# Altium integrated library Linear Technology Power Management Switching Regulator LTC1174-LTC3901.IntLib: 2647 symbols (part 69 of 364)
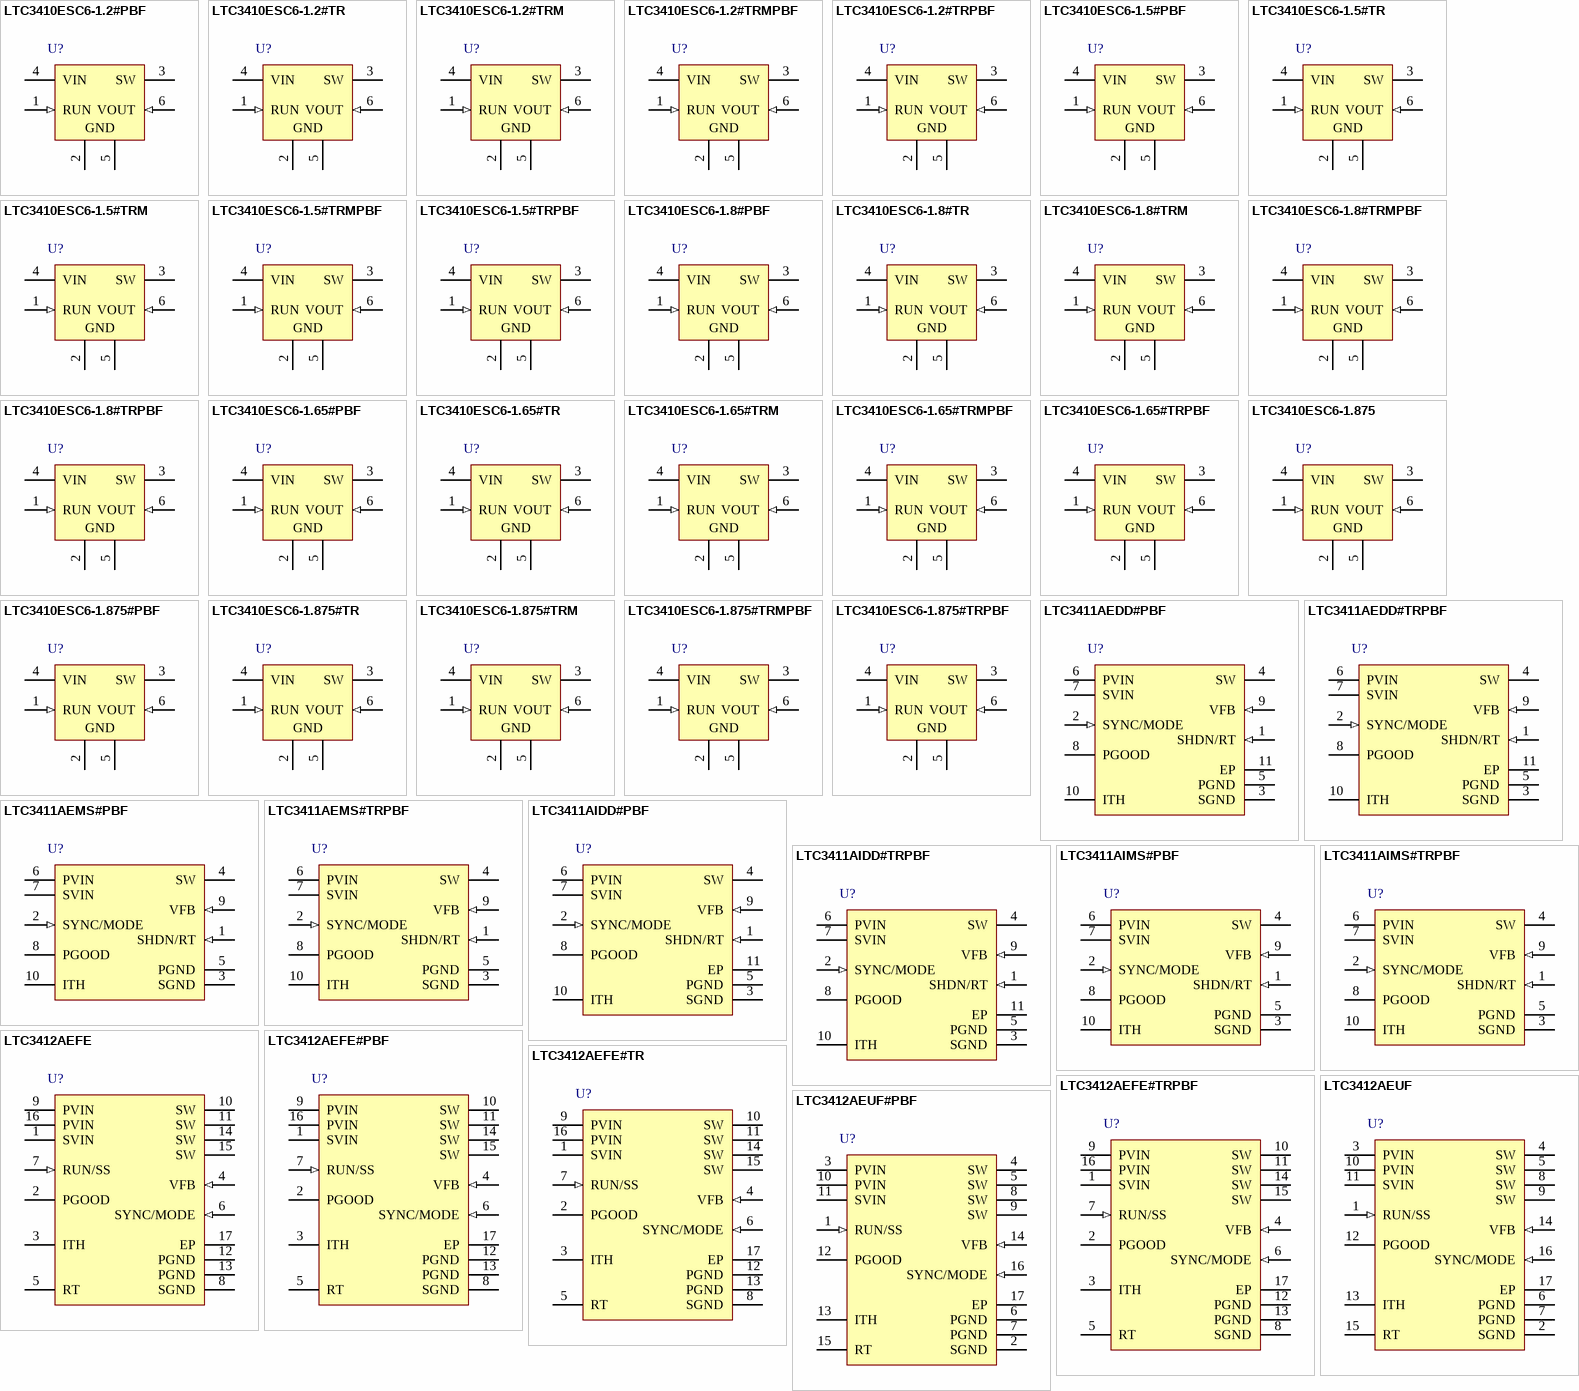
[diagram p250: symbols LTC3410ESC6-1.2#PBF to LTC3412AEUF#PBF]

## LTC3411AIMS#PBF
designator U?
1.25 A, 4 MHz, Synchronous Step-Down DC/DC Converter, 10-pin SOP (MS-10), -40 to 125 degC, Pb-Free; Manufacturer: Linear Technology; PartNumber: LTC3411AIMS#PBF; Frequency Sync Range: 400kHz - 4MHz; Number of Outputs: 1; DatasheetVersion: Rev. B; PackageVersion: Rev. E, 06/2010; PackageReference: MS-10; PackageDescription: 10-Pin Plastic MSOP, Body 3 x 3 mm, Pitch 0.5 mm; Supplier 1: Digi-Key; Supplier Part Number 1: LTC3411AIMS#PBF-ND; Supplier 2: Farnell; Supplier Part Number 2: 2295043; Supplier 3: Newark; Supplier Part Number 3: 15N3524; RoHS: TRUE; Mounting Technology: Surface Mount; ComponentLink1Description: Manufacturer URL; ComponentLink1URL: http://www.linear.com/; ComponentLink2Description: Datasheet; ComponentLink2URL: http://cds.linear.com/docs/en/datasheet/3411afb.pdf; ComponentLink3Description: Package Specification; ComponentLink3URL: http://cds.linear.com/docs/en/packaging/05081661_F_MS.pdf
footprint LT-MS-10_N (SOP, 10-Leads, Body 3.1x3.1mm, Pitch 0.5mm, IPC Medium Density)
footprint LT-MS-10_L (SOP, 10-Leads, Body 3.1x3.1mm, Pitch 0.5mm, IPC High Density)
footprint LT-MS-10_M (SOP, 10-Leads, Body 3.1x3.1mm, Pitch 0.5mm, IPC Low Density)
pins: 1 SHDN/RT (in) "Combination Shutdown and Timing Resistor Pin. The oscillator frequency is programmed by connecting a resistor from this pin to ground. Forcing this pin to SVIN causes the device to be shut down. In shutdown all functions are (See Datasheet)", 2 SYNC/MODE (in) "Combination Mode Selection and Oscillator Synchronization Pin. This pin controls the operation of the device. When tied to SVIN or SGND, Burst Mode operation or pulse skipping mode is selected, respectively. If this pin is (See Datasheet)", 3 SGND (power) "The Signal Ground Pin. All small-signal components and compensation components should be connected to this ground (see Board Layout Considerations).", 4 SW (power) "The Switch Node Connection to the Inductor. This pin swings from PVIN to PGND.", 5 PGND (power) "Main Power Ground Pin. Connect to the (-) terminal of COUT, and (-) terminal of CIN.", 6 PVIN (power) "Main Supply Pin. Must be closely decoupled to PGND.", 7 SVIN (power) "The Signal Power Pin. All active circuitry is powered from this pin. Must be closely decoupled to SGND. SVIN must be greater than or equal to PVIN.", 8 PGOOD (oc) "The Power Good Pin. This common drain logic output is pulled to SGND when the output voltage is not within +/-7% of regulation.", 9 VFB (in) "Receives the feedback voltage from the external resistive divider across the output. Nominal voltage for this pin is 0.8V.", 10 ITH "Error Amplifier Compensation Point. The current comparator threshold increases with this control voltage. Nominal voltage range for this pin is 0.4V to 1.4V."

## LTC3411AIMS#TRPBF
designator U?
1.25 A, 4 MHz, Synchronous Step-Down DC/DC Converter, 10-pin SOP (MS-10), -40 to 125 degC, Pb-Free, Tape and Reel; Manufacturer: Linear Technology; PartNumber: LTC3411AIMS#TRPBF; Frequency Sync Range: 400kHz - 4MHz; Number of Outputs: 1; DatasheetVersion: Rev. B; PackageVersion: Rev. E, 06/2010; PackageReference: MS-10; PackageDescription: 10-Pin Plastic MSOP, Body 3 x 3 mm, Pitch 0.5 mm; Supplier 1: Digi-Key; Supplier Part Number 1: LTC3411AIMS#TRPBF-ND; Packing: Tape and Reel; RoHS: TRUE; Mounting Technology: Surface Mount; ComponentLink1Description: Manufacturer URL; ComponentLink1URL: http://www.linear.com/; ComponentLink2Description: Datasheet; ComponentLink2URL: http://cds.linear.com/docs/en/datasheet/3411afb.pdf; ComponentLink3Description: Package Specification; ComponentLink3URL: http://cds.linear.com/docs/en/packaging/05081661_F_MS.pdf
footprint LT-MS-10_N (SOP, 10-Leads, Body 3.1x3.1mm, Pitch 0.5mm, IPC Medium Density)
footprint LT-MS-10_L (SOP, 10-Leads, Body 3.1x3.1mm, Pitch 0.5mm, IPC High Density)
footprint LT-MS-10_M (SOP, 10-Leads, Body 3.1x3.1mm, Pitch 0.5mm, IPC Low Density)
pins: 1 SHDN/RT (in) "Combination Shutdown and Timing Resistor Pin. The oscillator frequency is programmed by connecting a resistor from this pin to ground. Forcing this pin to SVIN causes the device to be shut down. In shutdown all functions are (See Datasheet)", 2 SYNC/MODE (in) "Combination Mode Selection and Oscillator Synchronization Pin. This pin controls the operation of the device. When tied to SVIN or SGND, Burst Mode operation or pulse skipping mode is selected, respectively. If this pin is (See Datasheet)", 3 SGND (power) "The Signal Ground Pin. All small-signal components and compensation components should be connected to this ground (see Board Layout Considerations).", 4 SW (power) "The Switch Node Connection to the Inductor. This pin swings from PVIN to PGND.", 5 PGND (power) "Main Power Ground Pin. Connect to the (-) terminal of COUT, and (-) terminal of CIN.", 6 PVIN (power) "Main Supply Pin. Must be closely decoupled to PGND.", 7 SVIN (power) "The Signal Power Pin. All active circuitry is powered from this pin. Must be closely decoupled to SGND. SVIN must be greater than or equal to PVIN.", 8 PGOOD (oc) "The Power Good Pin. This common drain logic output is pulled to SGND when the output voltage is not within +/-7% of regulation.", 9 VFB (in) "Receives the feedback voltage from the external resistive divider across the output. Nominal voltage for this pin is 0.8V.", 10 ITH "Error Amplifier Compensation Point. The current comparator threshold increases with this control voltage. Nominal voltage range for this pin is 0.4V to 1.4V."

## LTC3412AEFE
designator U?
3 A, 4 MHz, Monolithic Synchronous Step-Down Regulator, 16-pin SOP (FE-16-EPV-BA), -40 to 125 degC; Manufacturer: Linear Technology; PartNumber: LTC3412AEFE; Frequency Sync Range: 300kHz - 4MHz; Number of Outputs: 1; DatasheetVersion: Rev. E; PackageVersion: Rev. I, 05/2011; PackageReference: FE-16; PackageDescription: 16-Pin Plastic TSSOP, Body 5 x 4.4 mm, Pitch 0.65 mm; Supplier 1: Newark; Supplier Part Number 1: 58M0736; RoHS: FALSE; Mounting Technology: Surface Mount; ComponentLink1Description: Manufacturer URL; ComponentLink1URL: http://www.linear.com/; ComponentLink2Description: Datasheet; ComponentLink2URL: http://cds.linear.com/docs/en/datasheet/3412afe.pdf; ComponentLink3Description: Package Specification; ComponentLink3URL: http://cds.linear.com/docs/en/packaging/05081663_J_FE16(BA).pdf
footprint LT-FE-16-EPV-BA_N (SOP, 16-Leads, Body 5x4.4mm, Pitch 0.65mm, Thermal Pad 2.74x2.74mm, IPC Medium Density)
footprint LT-FE-16-EPV-BA_L (SOP, 16-Leads, Body 5x4.4mm, Pitch 0.65mm, Thermal Pad 2.74x2.74mm, IPC High Density)
footprint LT-FE-16-EPV-BA_M (SOP, 16-Leads, Body 5x4.4mm, Pitch 0.65mm, Thermal Pad 2.74x2.74mm, IPC Low Density)
pins: 1 SVIN (power) "Signal Input Supply. Decouple this pin to SGND with a capacitor.", 2 PGOOD (oc) "Power Good Output. Open-drain logic output that is pulled to ground when the output voltage is not within +/-7.5% of regulation point.", 3 ITH "Error Amplifier Compensation Point. The current comparator threshold increases with this control voltage. Nominal voltage range for this pin is from 0.2V to 1.4V with 0.4V corresponding to the zero-sense voltage (zero (See Datasheet)", 4 VFB (in) "Feedback Pin. Receives the feedback voltage from a resistive divider connected across the output.", 5 RT "Oscillator Resistor Input. Connecting a resistor to ground from this pin sets the switching frequency", 6 SYNC/MODE (in) "Mode Select and External Clock Synchronization Input. To select forced continuous, tie to SVIN. Connecting this pin to a voltage between 0V and 1V selects Burst Mode operation with the burst clamp set to the pin voltage.", 7 RUN/SS (in) "Run Control and Soft-Start Input. Forcing this pin below 0.5V shuts down the LTC3412A. In shutdown all functions are disabled drawing <1uA of  supply current. A capacitor to ground from this pin sets the ramp time to full (See Datasheet)", 8 SGND (power) "Signal Ground. All small-signal components, compensation components and the exposed pad on the bottom side of the IC should connect to this ground, which in turn connects to PGND at one point.", 9 PVIN (power) "Power Input Supply. Decouple this pin to PGND with a capacitor", 10 SW (power) "Switch Node Connection to the Inductor. This pin connects to the drains of the internal main and synchronous power MOSFET switches.", 11 SW (power) "Switch Node Connection to the Inductor. This pin connects to the drains of the internal main and synchronous power MOSFET switches.", 12 PGND (power) "Power Ground. Connect this pin close to the (-) terminal of CIN and COUT.", 13 PGND (power) "Power Ground. Connect this pin close to the (-) terminal of CIN and COUT.", 14 SW (power) "Switch Node Connection to the Inductor. This pin connects to the drains of the internal main and synchronous power MOSFET switches.", 15 SW (power) "Switch Node Connection to the Inductor. This pin connects to the drains of the internal main and synchronous power MOSFET switches.", 16 PVIN (power) "Power Input Supply. Decouple this pin to PGND with a capacitor", 17 EP (power) "Signal Ground. Must be soldered to PCB for electrical connection and rated thermal performance."

## LTC3412AEFE#PBF
designator U?
3 A, 4 MHz, Monolithic Synchronous Step-Down Regulator, 16-pin SOP (FE-16-EPV-BA), -40 to 125 degC, Pb-Free; Manufacturer: Linear Technology; PartNumber: LTC3412AEFE#PBF; Frequency Sync Range: 300kHz - 4MHz; Number of Outputs: 1; DatasheetVersion: Rev. E; PackageVersion: Rev. I, 05/2011; PackageReference: FE-16; PackageDescription: 16-Pin Plastic TSSOP, Body 5 x 4.4 mm, Pitch 0.65 mm; Supplier 1: Digi-Key; Supplier Part Number 1: LTC3412AEFE#PBF-ND; Supplier 2: Farnell; Supplier Part Number 2: 2295046; Supplier 3: Newark; Supplier Part Number 3: 58M0737; RoHS: TRUE; Mounting Technology: Surface Mount; ComponentLink1Description: Manufacturer URL; ComponentLink1URL: http://www.linear.com/; ComponentLink2Description: Datasheet; ComponentLink2URL: http://cds.linear.com/docs/en/datasheet/3412afe.pdf; ComponentLink3Description: Package Specification; ComponentLink3URL: http://cds.linear.com/docs/en/packaging/05081663_J_FE16(BA).pdf
footprint LT-FE-16-EPV-BA_N (SOP, 16-Leads, Body 5x4.4mm, Pitch 0.65mm, Thermal Pad 2.74x2.74mm, IPC Medium Density)
footprint LT-FE-16-EPV-BA_L (SOP, 16-Leads, Body 5x4.4mm, Pitch 0.65mm, Thermal Pad 2.74x2.74mm, IPC High Density)
footprint LT-FE-16-EPV-BA_M (SOP, 16-Leads, Body 5x4.4mm, Pitch 0.65mm, Thermal Pad 2.74x2.74mm, IPC Low Density)
pins: 1 SVIN (power) "Signal Input Supply. Decouple this pin to SGND with a capacitor.", 2 PGOOD (oc) "Power Good Output. Open-drain logic output that is pulled to ground when the output voltage is not within +/-7.5% of regulation point.", 3 ITH "Error Amplifier Compensation Point. The current comparator threshold increases with this control voltage. Nominal voltage range for this pin is from 0.2V to 1.4V with 0.4V corresponding to the zero-sense voltage (zero (See Datasheet)", 4 VFB (in) "Feedback Pin. Receives the feedback voltage from a resistive divider connected across the output.", 5 RT "Oscillator Resistor Input. Connecting a resistor to ground from this pin sets the switching frequency", 6 SYNC/MODE (in) "Mode Select and External Clock Synchronization Input. To select forced continuous, tie to SVIN. Connecting this pin to a voltage between 0V and 1V selects Burst Mode operation with the burst clamp set to the pin voltage.", 7 RUN/SS (in) "Run Control and Soft-Start Input. Forcing this pin below 0.5V shuts down the LTC3412A. In shutdown all functions are disabled drawing <1uA of  supply current. A capacitor to ground from this pin sets the ramp time to full (See Datasheet)", 8 SGND (power) "Signal Ground. All small-signal components, compensation components and the exposed pad on the bottom side of the IC should connect to this ground, which in turn connects to PGND at one point.", 9 PVIN (power) "Power Input Supply. Decouple this pin to PGND with a capacitor", 10 SW (power) "Switch Node Connection to the Inductor. This pin connects to the drains of the internal main and synchronous power MOSFET switches.", 11 SW (power) "Switch Node Connection to the Inductor. This pin connects to the drains of the internal main and synchronous power MOSFET switches.", 12 PGND (power) "Power Ground. Connect this pin close to the (-) terminal of CIN and COUT.", 13 PGND (power) "Power Ground. Connect this pin close to the (-) terminal of CIN and COUT.", 14 SW (power) "Switch Node Connection to the Inductor. This pin connects to the drains of the internal main and synchronous power MOSFET switches.", 15 SW (power) "Switch Node Connection to the Inductor. This pin connects to the drains of the internal main and synchronous power MOSFET switches.", 16 PVIN (power) "Power Input Supply. Decouple this pin to PGND with a capacitor", 17 EP (power) "Signal Ground. Must be soldered to PCB for electrical connection and rated thermal performance."

## LTC3412AEFE#TR
designator U?
3 A, 4 MHz, Monolithic Synchronous Step-Down Regulator, 16-pin SOP (FE-16-EPV-BA), -40 to 125 degC, Tape and Reel; Manufacturer: Linear Technology; PartNumber: LTC3412AEFE#TR; Frequency Sync Range: 300kHz - 4MHz; Number of Outputs: 1; DatasheetVersion: Rev. E; PackageVersion: Rev. I, 05/2011; PackageReference: FE-16; PackageDescription: 16-Pin Plastic TSSOP, Body 5 x 4.4 mm, Pitch 0.65 mm; Supplier 1: Newark; Supplier Part Number 1: 58M0738; Packing: Tape and Reel; RoHS: FALSE; Mounting Technology: Surface Mount; ComponentLink1Description: Manufacturer URL; ComponentLink1URL: http://www.linear.com/; ComponentLink2Description: Datasheet; ComponentLink2URL: http://cds.linear.com/docs/en/datasheet/3412afe.pdf; ComponentLink3Description: Package Specification; ComponentLink3URL: http://cds.linear.com/docs/en/packaging/05081663_J_FE16(BA).pdf
footprint LT-FE-16-EPV-BA_N (SOP, 16-Leads, Body 5x4.4mm, Pitch 0.65mm, Thermal Pad 2.74x2.74mm, IPC Medium Density)
footprint LT-FE-16-EPV-BA_L (SOP, 16-Leads, Body 5x4.4mm, Pitch 0.65mm, Thermal Pad 2.74x2.74mm, IPC High Density)
footprint LT-FE-16-EPV-BA_M (SOP, 16-Leads, Body 5x4.4mm, Pitch 0.65mm, Thermal Pad 2.74x2.74mm, IPC Low Density)
pins: 1 SVIN (power) "Signal Input Supply. Decouple this pin to SGND with a capacitor.", 2 PGOOD (oc) "Power Good Output. Open-drain logic output that is pulled to ground when the output voltage is not within +/-7.5% of regulation point.", 3 ITH "Error Amplifier Compensation Point. The current comparator threshold increases with this control voltage. Nominal voltage range for this pin is from 0.2V to 1.4V with 0.4V corresponding to the zero-sense voltage (zero (See Datasheet)", 4 VFB (in) "Feedback Pin. Receives the feedback voltage from a resistive divider connected across the output.", 5 RT "Oscillator Resistor Input. Connecting a resistor to ground from this pin sets the switching frequency", 6 SYNC/MODE (in) "Mode Select and External Clock Synchronization Input. To select forced continuous, tie to SVIN. Connecting this pin to a voltage between 0V and 1V selects Burst Mode operation with the burst clamp set to the pin voltage.", 7 RUN/SS (in) "Run Control and Soft-Start Input. Forcing this pin below 0.5V shuts down the LTC3412A. In shutdown all functions are disabled drawing <1uA of  supply current. A capacitor to ground from this pin sets the ramp time to full (See Datasheet)", 8 SGND (power) "Signal Ground. All small-signal components, compensation components and the exposed pad on the bottom side of the IC should connect to this ground, which in turn connects to PGND at one point.", 9 PVIN (power) "Power Input Supply. Decouple this pin to PGND with a capacitor", 10 SW (power) "Switch Node Connection to the Inductor. This pin connects to the drains of the internal main and synchronous power MOSFET switches.", 11 SW (power) "Switch Node Connection to the Inductor. This pin connects to the drains of the internal main and synchronous power MOSFET switches.", 12 PGND (power) "Power Ground. Connect this pin close to the (-) terminal of CIN and COUT.", 13 PGND (power) "Power Ground. Connect this pin close to the (-) terminal of CIN and COUT.", 14 SW (power) "Switch Node Connection to the Inductor. This pin connects to the drains of the internal main and synchronous power MOSFET switches.", 15 SW (power) "Switch Node Connection to the Inductor. This pin connects to the drains of the internal main and synchronous power MOSFET switches.", 16 PVIN (power) "Power Input Supply. Decouple this pin to PGND with a capacitor", 17 EP (power) "Signal Ground. Must be soldered to PCB for electrical connection and rated thermal performance."

## LTC3412AEFE#TRPBF
designator U?
3 A, 4 MHz, Monolithic Synchronous Step-Down Regulator, 16-pin SOP (FE-16-EPV-BA), -40 to 125 degC, Pb-Free, Tape and Reel; Manufacturer: Linear Technology; PartNumber: LTC3412AEFE#TRPBF; Frequency Sync Range: 300kHz - 4MHz; Number of Outputs: 1; DatasheetVersion: Rev. E; PackageVersion: Rev. I, 05/2011; PackageReference: FE-16; PackageDescription: 16-Pin Plastic TSSOP, Body 5 x 4.4 mm, Pitch 0.65 mm; Supplier 1: Digi-Key; Supplier Part Number 1: LTC3412AEFE#TRPBF-ND; Supplier 2: Newark; Supplier Part Number 2: 58M0739; Packing: Tape and Reel; RoHS: TRUE; Mounting Technology: Surface Mount; ComponentLink1Description: Manufacturer URL; ComponentLink1URL: http://www.linear.com/; ComponentLink2Description: Datasheet; ComponentLink2URL: http://cds.linear.com/docs/en/datasheet/3412afe.pdf; ComponentLink3Description: Package Specification; ComponentLink3URL: http://cds.linear.com/docs/en/packaging/05081663_J_FE16(BA).pdf
footprint LT-FE-16-EPV-BA_N (SOP, 16-Leads, Body 5x4.4mm, Pitch 0.65mm, Thermal Pad 2.74x2.74mm, IPC Medium Density)
footprint LT-FE-16-EPV-BA_L (SOP, 16-Leads, Body 5x4.4mm, Pitch 0.65mm, Thermal Pad 2.74x2.74mm, IPC High Density)
footprint LT-FE-16-EPV-BA_M (SOP, 16-Leads, Body 5x4.4mm, Pitch 0.65mm, Thermal Pad 2.74x2.74mm, IPC Low Density)
pins: 1 SVIN (power) "Signal Input Supply. Decouple this pin to SGND with a capacitor.", 2 PGOOD (oc) "Power Good Output. Open-drain logic output that is pulled to ground when the output voltage is not within +/-7.5% of regulation point.", 3 ITH "Error Amplifier Compensation Point. The current comparator threshold increases with this control voltage. Nominal voltage range for this pin is from 0.2V to 1.4V with 0.4V corresponding to the zero-sense voltage (zero (See Datasheet)", 4 VFB (in) "Feedback Pin. Receives the feedback voltage from a resistive divider connected across the output.", 5 RT "Oscillator Resistor Input. Connecting a resistor to ground from this pin sets the switching frequency", 6 SYNC/MODE (in) "Mode Select and External Clock Synchronization Input. To select forced continuous, tie to SVIN. Connecting this pin to a voltage between 0V and 1V selects Burst Mode operation with the burst clamp set to the pin voltage.", 7 RUN/SS (in) "Run Control and Soft-Start Input. Forcing this pin below 0.5V shuts down the LTC3412A. In shutdown all functions are disabled drawing <1uA of  supply current. A capacitor to ground from this pin sets the ramp time to full (See Datasheet)", 8 SGND (power) "Signal Ground. All small-signal components, compensation components and the exposed pad on the bottom side of the IC should connect to this ground, which in turn connects to PGND at one point.", 9 PVIN (power) "Power Input Supply. Decouple this pin to PGND with a capacitor", 10 SW (power) "Switch Node Connection to the Inductor. This pin connects to the drains of the internal main and synchronous power MOSFET switches.", 11 SW (power) "Switch Node Connection to the Inductor. This pin connects to the drains of the internal main and synchronous power MOSFET switches.", 12 PGND (power) "Power Ground. Connect this pin close to the (-) terminal of CIN and COUT.", 13 PGND (power) "Power Ground. Connect this pin close to the (-) terminal of CIN and COUT.", 14 SW (power) "Switch Node Connection to the Inductor. This pin connects to the drains of the internal main and synchronous power MOSFET switches.", 15 SW (power) "Switch Node Connection to the Inductor. This pin connects to the drains of the internal main and synchronous power MOSFET switches.", 16 PVIN (power) "Power Input Supply. Decouple this pin to PGND with a capacitor", 17 EP (power) "Signal Ground. Must be soldered to PCB for electrical connection and rated thermal performance."